# Altium footprint library LARS_409_CONNECTORS.PCBLIB: 109 footprints (part 1 of 7)
Each footprint in its own frame and in the unit in brackets; x right, y up, seen from the top. Pads: shape width x height; smd on the part's side, far side on the other; paste and mask are expansions set on the pad; w line width, h text height; cw(c..) or ccw(c..) is an arc to the next point about the centre after c.
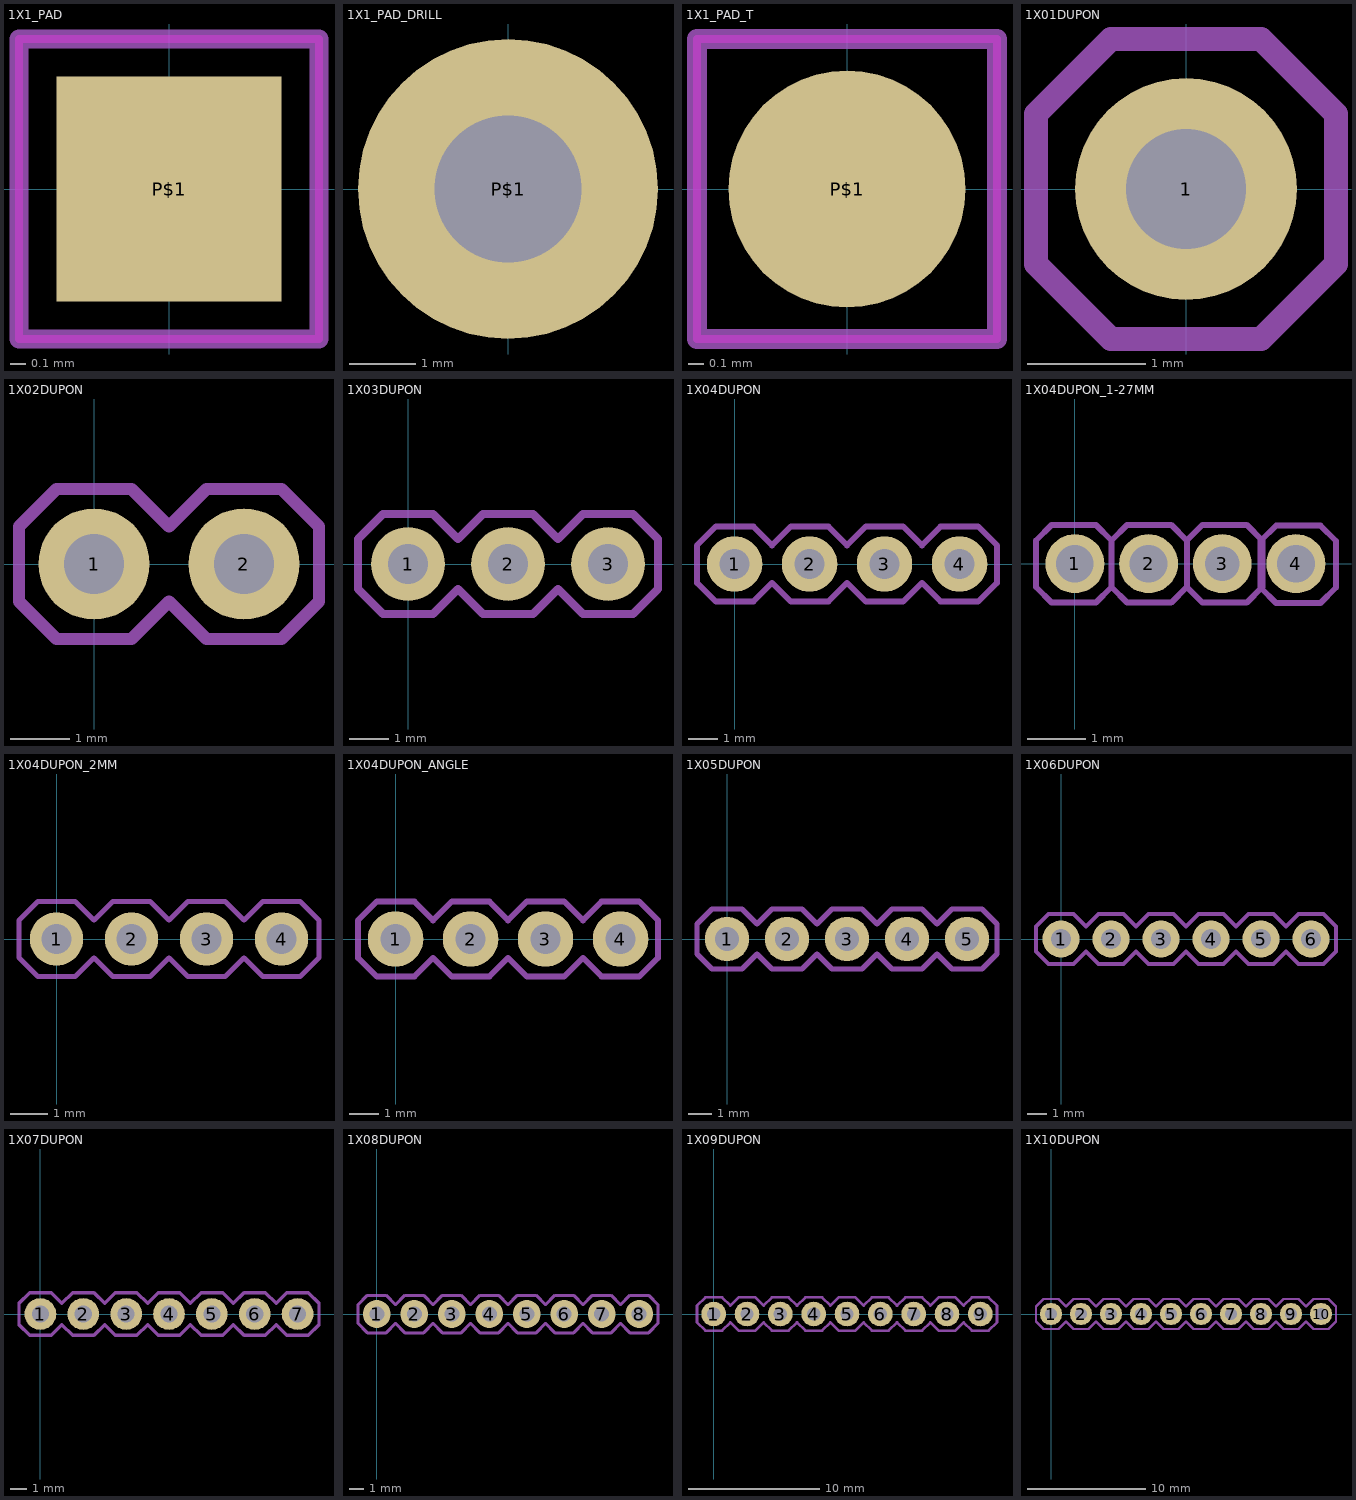
[diagram p0: the footprints below, top view; thin cyan lines are the x and y axes]

## 1X1_PAD [mil]
pads (1):
  rect 59.06x59.06 smd: P$1(0,0)
Top keep-out:
  lines w1.97: -39.37,-39.37 -39.37,39.37 39.37,39.37 39.37,-39.37 -39.37,-39.37
tPlace:
  lines w5: -39.37,-39.37 39.37,-39.37 39.37,39.37 -39.37,39.37 -39.37,-39.37

## 1X1_PAD_DRILL [mil]
pads (1):
  round 177.17 hole 86.61: P$1(0,0)

## 1X1_PAD_T [mil]
pads (1):
  rrect100% 59.06x59.06 smd: P$1(0,0)
Top keep-out:
  lines w1.97: -37.4,-37.4 37.4,-37.4 37.4,37.4 -37.4,37.4 -37.4,-37.4
tPlace:
  lines w5: -37.4,-37.4 -37.4,37.4 37.4,37.4 37.4,-37.4 -37.4,-37.4

## 1X01DUPON [mil]
pads (1):
  round 74 hole 40: 1(0,0)
tDocu:
  region: -10,-10 -10,10 10,10 10,-10
tPlace:
  lines w8: -50,-25 -25,-50 25,-50 50,-25 50,25 25,50 -25,50 -50,25 -50,-25

## 1X02DUPON [mil]
pads (2):
  round 74 hole 40: 1(0,0) 2(100,0)
tDocu:
  region: -10,-10 -10,10 10,10 10,-10
  region: 90,-10 90,10 110,10 110,-10
tPlace:
  lines w8: -50,-25 -25,-50 25,-50 50,-25 75,-50 125,-50 150,-25 150,25 125,50 75,50 50,25 25,50 -25,50 -50,25 -50,-25

## 1X03DUPON [mil]
pads (3):
  round 74 hole 40: 1(0,0) 2(100,0) 3(200,0)
tDocu:
  region: -10,-10 -10,10 10,10 10,-10
  region: 90,-10 90,10 110,10 110,-10
  region: 190,-10 190,10 210,10 210,-10
tPlace:
  lines w8: -50,-25 -25,-50 25,-50 50,-25 75,-50 125,-50 150,-25 175,-50 225,-50 250,-25 250,25 225,50 175,50 150,25 125,50 75,50 50,25 25,50 -25,50 -50,25 -50,-25

## 1X04DUPON [mil]
pads (4):
  round 74 hole 40: 1(0,0) 2(100,0) 3(200,0) 4(300,0)
tDocu:
  region: -10,-10 -10,10 10,10 10,-10
  region: 90,-10 90,10 110,10 110,-10
  region: 190,-10 190,10 210,10 210,-10
  region: 290,-10 290,10 310,10 310,-10
tPlace:
  lines w8: -50,-25 -25,-50 25,-50 50,-25 75,-50 125,-50 150,-25 175,-50 225,-50 250,-25 275,-50 325,-50 350,-25 350,25 325,50 275,50 250,25 225,50 175,50 150,25 125,50 75,50 50,25 25,50 -25,50 -50,25 -50,-25
3D body "User Library-1x4 TH Pitch 2_54mm.STEP": height 362.2, standoff -137.8, extent -50,-50 350,50

## 1X04DUPON_1-27MM [mil]
pads (4):
  round 40 hole 25.59: 1(0,0) 2(50,0) 4(150,0)
  round 40 hole 23.62: 3(100,0)
tPlace:
  lines w4: 24.8,-15.75 24.8,15.75 ; 24.8,-15.75 14.17,-26.38 -15.75,-26.38 -26.38,-15.75 -26.38,15.75 -15.75,26.38 14.17,26.38 24.8,15.75 ; 24.8,-15.75 24.8,15.75 ; 24.8,-15.75 35.43,-26.38 65.35,-26.38 75.98,-15.75 ; 24.8,15.75 35.43,26.38 65.35,26.38 75.98,15.75 ; 75.98,-15.75 75.98,15.75 ; 75.98,-15.75 75.98,15.75 ; 75.98,-15.75 86.61,-26.38 116.54,-26.38 127.17,-15.75 127.17,15.75 116.54,26.38 86.61,26.38 75.98,15.75 ; 125.98,-16.14 125.98,15.35 136.61,25.98 166.54,25.98 177.17,15.35 177.17,-16.14 166.54,-26.77 136.61,-26.77 125.98,-16.14

## 1X04DUPON_2MM [mil]
pads (4):
  round 56 hole 31.5: 1(0,0) 2(78.74,0) 3(157.48,0) 4(236.22,0)
tPlace:
  lines w5: -39.37,-19.69 -39.37,19.69 -19.69,39.37 19.69,39.37 39.37,19.69 59.06,39.37 98.43,39.37 118.11,19.69 137.8,39.37 177.17,39.37 196.85,19.69 216.54,39.37 255.91,39.37 275.59,19.69 275.59,-19.69 255.91,-39.37 216.54,-39.37 196.85,-19.69 177.17,-39.37 137.8,-39.37 118.11,-19.69 98.43,-39.37 59.06,-39.37 39.37,-19.69 19.69,-39.37 -19.69,-39.37 -39.37,-19.69

## 1X04DUPON_ANGLE [mil]
pads (4):
  round 74 hole 40: 1(0,0) 2(100,0) 3(200,0) 4(300,0)
tDocu:
  region: 290,-10 290,10 310,10 310,-10
  region: 190,-10 190,10 210,10 210,-10
  region: 90,-10 90,10 110,10 110,-10
  region: -10,-10 -10,10 10,10 10,-10
tPlace:
  lines w8: -50,-25 -50,25 -25,50 25,50 50,25 75,50 125,50 150,25 175,50 225,50 250,25 275,50 325,50 350,25 350,-25 325,-50 275,-50 250,-25 225,-50 175,-50 150,-25 125,-50 75,-50 50,-25 25,-50 -25,-50 -50,-25

## 1X05DUPON [mil]
pads (5):
  round 74 hole 40: 1(0,0) 2(100,0) 3(200,0) 4(300,0) 5(400,0)
tDocu:
  region: 390,-10 390,10 410,10 410,-10
  region: 290,-10 290,10 310,10 310,-10
  region: 190,-10 190,10 210,10 210,-10
  region: 90,-10 90,10 110,10 110,-10
  region: -10,-10 -10,10 10,10 10,-10
tPlace:
  lines w8: -50,-25 -50,25 -25,50 25,50 50,25 75,50 125,50 150,25 175,50 225,50 250,25 275,50 325,50 350,25 375,50 425,50 450,25 450,-25 425,-50 375,-50 350,-25 325,-50 275,-50 250,-25 225,-50 175,-50 150,-25 125,-50 75,-50 50,-25 25,-50 -25,-50 -50,-25

## 1X06DUPON [mil]
pads (6):
  round 74 hole 40: 1(0,0) 2(100,0) 3(200,0) 4(300,0) 5(400,0) 6(500,0)
tDocu:
  region: 490,-10 490,10 510,10 510,-10
  region: 390,-10 390,10 410,10 410,-10
  region: 290,-10 290,10 310,10 310,-10
  region: 190,-10 190,10 210,10 210,-10
  region: 90,-10 90,10 110,10 110,-10
  region: -10,-10 -10,10 10,10 10,-10
tPlace:
  lines w8: -50,-25 -50,25 -25,50 25,50 50,25 75,50 125,50 150,25 175,50 225,50 250,25 275,50 325,50 350,25 375,50 425,50 450,25 475,50 525,50 550,25 550,-25 525,-50 475,-50 450,-25 425,-50 375,-50 350,-25 325,-50 275,-50 250,-25 225,-50 175,-50 150,-25 125,-50 75,-50 50,-25 25,-50 -25,-50 -50,-25

## 1X07DUPON [mil]
pads (7):
  round 74 hole 40: 1(0,0) 2(100,0) 3(200,0) 4(300,0) 5(400,0) 6(500,0) 7(600,0)
tDocu:
  region: 590,-10 590,10 610,10 610,-10
  region: 490,-10 490,10 510,10 510,-10
  region: 390,-10 390,10 410,10 410,-10
  region: 290,-10 290,10 310,10 310,-10
  region: 190,-10 190,10 210,10 210,-10
  region: 90,-10 90,10 110,10 110,-10
  region: -10,-10 -10,10 10,10 10,-10
tPlace:
  lines w8: -50,-25 -50,25 -25,50 25,50 50,25 75,50 125,50 150,25 175,50 225,50 250,25 275,50 325,50 350,25 375,50 425,50 450,25 475,50 525,50 550,25 575,50 625,50 650,25 650,-25 625,-50 575,-50 550,-25 525,-50 475,-50 450,-25 425,-50 375,-50 350,-25 325,-50 275,-50 250,-25 225,-50 175,-50 150,-25 125,-50 75,-50 50,-25 25,-50 -25,-50 -50,-25

## 1X08DUPON [mil]
pads (8):
  round 74 hole 40: 1(0,0) 2(100,0) 3(200,0) 4(300,0) 5(400,0) 6(500,0) 7(600,0) 8(700,0)
tDocu:
  region: 590,-10 590,10 610,10 610,-10
  region: 490,-10 490,10 510,10 510,-10
  region: 390,-10 390,10 410,10 410,-10
  region: 290,-10 290,10 310,10 310,-10
  region: 190,-10 190,10 210,10 210,-10
  region: 90,-10 90,10 110,10 110,-10
  region: -10,-10 -10,10 10,10 10,-10
  region: 690,-10 690,10 710,10 710,-10
tPlace:
  lines w8: -50,-25 -50,25 -25,50 25,50 50,25 75,50 125,50 150,25 175,50 225,50 250,25 275,50 325,50 350,25 375,50 425,50 450,25 475,50 525,50 550,25 575,50 625,50 650,25 675,50 725,50 750,25 750,-25 725,-50 675,-50 650,-25 625,-50 575,-50 550,-25 525,-50 475,-50 450,-25 425,-50 375,-50 350,-25 325,-50 275,-50 250,-25 225,-50 175,-50 150,-25 125,-50 75,-50 50,-25 25,-50 -25,-50 -50,-25

## 1X09DUPON [mil]
pads (9):
  round 74 hole 40: 1(0,0) 2(100,0) 3(200,0) 4(300,0) 5(400,0) 6(500,0) 7(600,0) 8(700,0) 9(800,0)
tDocu:
  region: 590,-10 590,10 610,10 610,-10
  region: 490,-10 490,10 510,10 510,-10
  region: 390,-10 390,10 410,10 410,-10
  region: 290,-10 290,10 310,10 310,-10
  region: 190,-10 190,10 210,10 210,-10
  region: 90,-10 90,10 110,10 110,-10
  region: -10,-10 -10,10 10,10 10,-10
  region: 690,-10 690,10 710,10 710,-10
  region: 790,-10 790,10 810,10 810,-10
tPlace:
  lines w8: -50,-25 -50,25 -25,50 25,50 50,25 75,50 125,50 150,25 175,50 225,50 250,25 275,50 325,50 350,25 375,50 425,50 450,25 475,50 525,50 550,25 575,50 625,50 650,25 675,50 725,50 750,25 775,50 825,50 850,25 850,-25 825,-50 775,-50 750,-25 725,-50 675,-50 650,-25 625,-50 575,-50 550,-25 525,-50 475,-50 450,-25 425,-50 375,-50 350,-25 325,-50 275,-50 250,-25 225,-50 175,-50 150,-25 125,-50 75,-50 50,-25 25,-50 -25,-50 -50,-25

## 1X10DUPON [mil]
pads (10):
  round 74 hole 40: 1(0,0) 2(100,0) 3(200,0) 4(300,0) 5(400,0) 6(500,0) 7(600,0) 8(700,0) 9(800,0) 10(900,0)
tDocu:
  region: 590,-10 590,10 610,10 610,-10
  region: 490,-10 490,10 510,10 510,-10
  region: 390,-10 390,10 410,10 410,-10
  region: 290,-10 290,10 310,10 310,-10
  region: 190,-10 190,10 210,10 210,-10
  region: 90,-10 90,10 110,10 110,-10
  region: -10,-10 -10,10 10,10 10,-10
  region: 690,-10 690,10 710,10 710,-10
  region: 790,-10 790,10 810,10 810,-10
  region: 890,-10 890,10 910,10 910,-10
tPlace:
  lines w8: -50,-25 -50,25 -25,50 25,50 50,25 75,50 125,50 150,25 175,50 225,50 250,25 275,50 325,50 350,25 375,50 425,50 450,25 475,50 525,50 550,25 575,50 625,50 650,25 675,50 725,50 750,25 775,50 825,50 850,25 875,50 925,50 950,25 950,-25 925,-50 875,-50 850,-25 825,-50 775,-50 750,-25 725,-50 675,-50 650,-25 625,-50 575,-50 550,-25 525,-50 475,-50 450,-25 425,-50 375,-50 350,-25 325,-50 275,-50 250,-25 225,-50 175,-50 150,-25 125,-50 75,-50 50,-25 25,-50 -25,-50 -50,-25